# EAGLE library part 55917-38 (library con-molex-2)
DIP connector 2mm 38 way
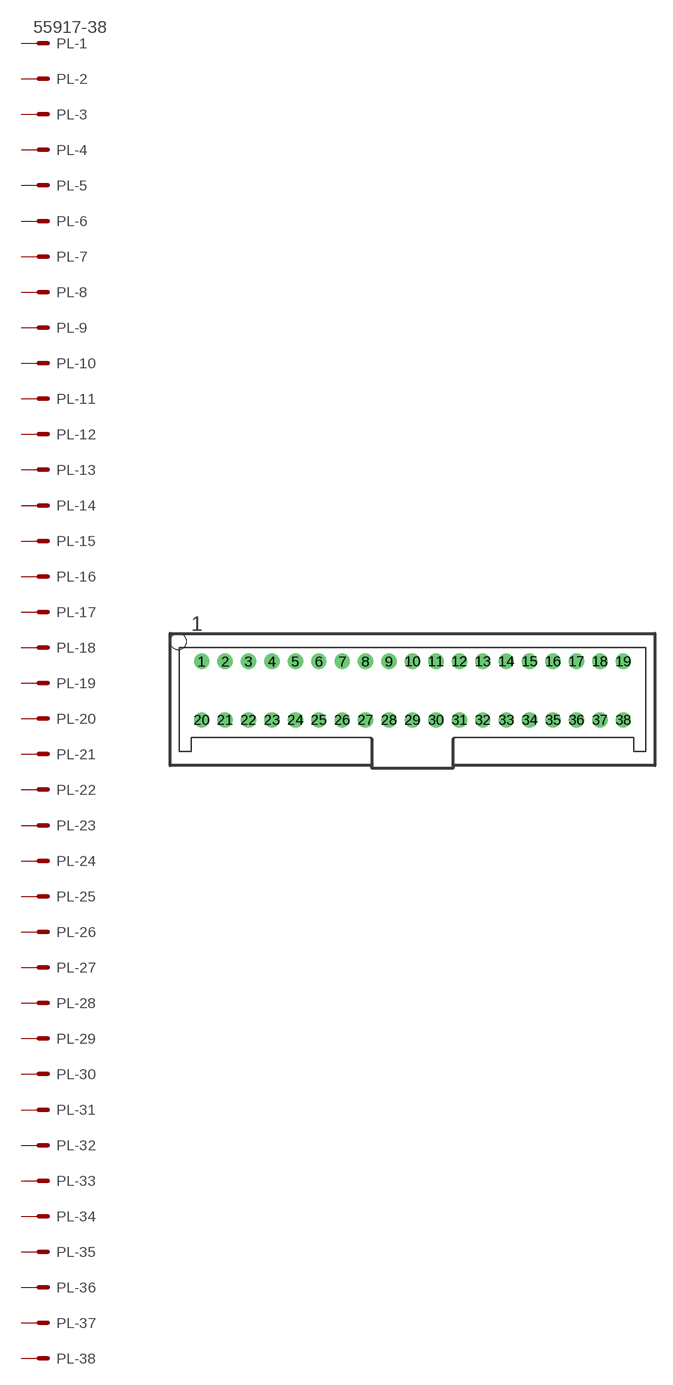
[diagram p25: symbol with the pads of 55917-38; footprint 55917-38]

Designator prefix PL; gates -1=MV -2=M -3=M -4=M -5=M -6=M -7=M -8=M -9=M -10=M -11=M -12=M -13=M -14=M -15=M -16=M -17=M -18=M -19=M -20=M -21=M -22=M -23=M -24=M -25=M -26=M -27=M -28=M -29=M -30=M -31=M -32=M -33=M -34=M -35=M -36=M -37=M -38=M

## 55917-38  [55917-38]
1  -1:S  pas
2  -2:S  pas
3  -3:S  pas
4  -4:S  pas
5  -5:S  pas
6  -6:S  pas
7  -7:S  pas
8  -8:S  pas
9  -9:S  pas
10  -10:S  pas
11  -11:S  pas
12  -12:S  pas
13  -13:S  pas
14  -14:S  pas
15  -15:S  pas
16  -16:S  pas
17  -17:S  pas
18  -18:S  pas
19  -19:S  pas
20  -20:S  pas
21  -21:S  pas
22  -22:S  pas
23  -23:S  pas
24  -24:S  pas
25  -25:S  pas
26  -26:S  pas
27  -27:S  pas
28  -28:S  pas
29  -29:S  pas
30  -30:S  pas
31  -31:S  pas
32  -32:S  pas
33  -33:S  pas
34  -34:S  pas
35  -35:S  pas
36  -36:S  pas
37  -37:S  pas
38  -38:S  pas

## Footprint 55917-38 (pad centres in mm)
DIP connector 2mm 38 way
drill 0.8: 1 -18,2.5; 2 -16,2.5; 3 -14,2.5; 4 -12,2.5; 5 -10,2.5; 6 -8,2.5; 7 -6,2.5; 8 -4,2.5; 9 -2,2.5; 10 0,2.5; 11 2,2.5; 12 4,2.5; 13 6,2.5; 14 8,2.5; 15 10,2.5; 16 12,2.5; 17 14,2.5; 18 16,2.5; 19 18,2.5; 20 -18,-2.5; 21 -16,-2.5; 22 -14,-2.5; 23 -12,-2.5; 24 -10,-2.5; 25 -8,-2.5; 26 -6,-2.5; 27 -4,-2.5; 28 -2,-2.5; 29 0,-2.5; 30 2,-2.5; 31 4,-2.5; 32 6,-2.5; 33 8,-2.5; 34 10,-2.5; 35 12,-2.5; 36 14,-2.5; 37 16,-2.5; 38 18,-2.5
hole 1.35 at -20,4.2